# Altium schematic symbol library OpAmps.SchLib: 6 symbols
Pins are listed as number, name and electrical type; pins without a type are passive.

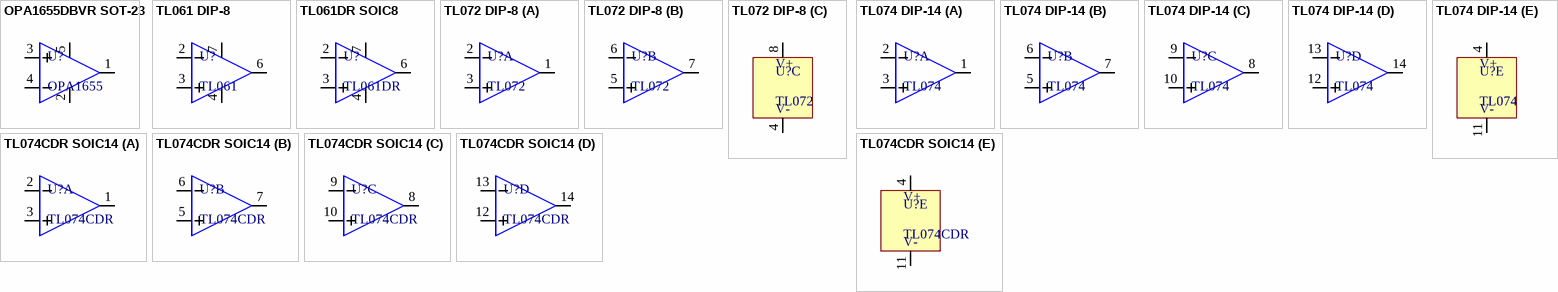
[diagram p0: symbols OPA1655DBVR SOT-23 to TL074CDR SOIC14]

## OPA1655DBVR SOT-23
designator U?, comment OPA1655
OPA1655DBVR Single Op-Amp SOT-23 package; Manufacturer: Texas Instruments; Type: Op-Amp; Package Type: SMD; Package: SOT-23
footprint SOT-23-5 (SOT-23 SMD package 5 leg)
pins: 1, 2, 3, 4, 5

## TL061 DIP-8
designator U?, comment TL061
TL061 Single Op-Amp DIP-8 Package; Type: Op Amp; Package Type: THT; Package: DIP-8
footprint DIP-8 (DIP-8 THT package)
footprint DIP-8 socket (Socket for DIP-8 ICs)
pins: 2, 3, 4, 6, 7

## TL061DR SOIC8
designator U?, comment TL061DR
TL061DR Single Op-Amp SOIC8 Package; Type: Op Amp; Package Type: SMD; Package: SOIC8
footprint SOIC8 (SOIC8 SMD package)
pins: 2, 3, 4, 6, 7

## TL072 DIP-8
designator U?, comment TL072
TL072 Dual Op-Amp DIP-8 Package; Type: Op Amp; Package Type: THT; Package: DIP-8
footprint DIP-8 (DIP-8 THT package)
footprint DIP-8 socket (Socket for DIP-8 ICs)
part A pins: 1, 2, 3
part B pins: 5, 6, 7
part C pins: 4, 8
part C text: V+; V-

## TL074 DIP-14
designator U?, comment TL074
TL074 Quad Op-Amp DIP-14 Package; Type: Op Amp; Package Type: THT; Package: DIP-14
footprint DIP-14 (DIP-14 THT package)
footprint DIP-14 socket (Socket for DIP-14 ICs)
part A pins: 1, 2, 3
part B pins: 5, 6, 7
part C pins: 8, 9, 10
part D pins: 12, 13, 14
part E pins: 4, 11
part E text: V+; V-

## TL074CDR SOIC14
designator U?, comment TL074CDR
TL074CDR Quad Op-Amp SOIC14 Package; Type: Op Amp; Package Type: SMD; Package: SOIC14
footprint SOIC14 (SOIC14 SMD package)
part A pins: 1, 2, 3
part B pins: 5, 6, 7
part C pins: 8, 9, 10
part D pins: 12, 13, 14
part E pins: 4, 11
part E text: V+; V-